# EAGLE library part AD767 (library ADS1115DGS)
ANALOG DEVICES
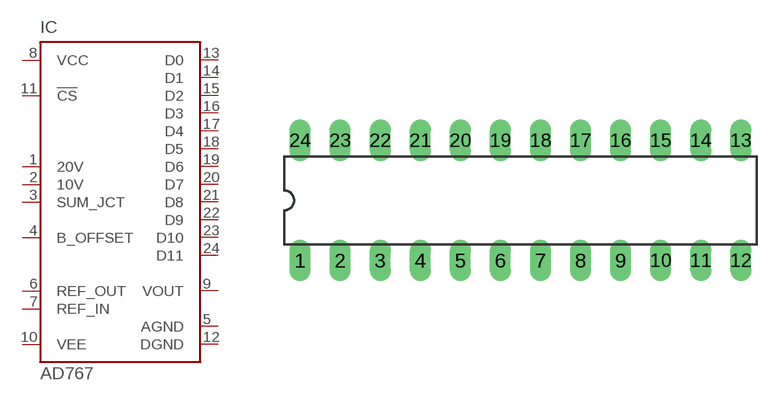
[diagram p6: symbol with the pads of DIL24-3; footprint DIL24-3]

Designator prefix IC

## AD767 (MF: ALTERA CORPORATION; MPN: AD767KNZ; OC_FARNELL: 9604510; OC_NEWARK: 59K5176)  [DIL24-3]
1  20V  pas
2  10V  pas
3  SUM_JCT  pas
4  B_OFFSET  pas
5  AGND  pwr
6  REF_OUT  out
7  REF_IN  in
8  VCC  pwr
9  VOUT  out
10  VEE  pwr
11  !CS  in
12  DGND  pwr
13  D0  hiz
14  D1  hiz
15  D2  hiz
16  D3  hiz
17  D4  hiz
18  D5  hiz
19  D6  hiz
20  D7  hiz
21  D8  hiz
22  D9  hiz
23  D10  hiz
24  D11  hiz

## Footprint DIL24-3 (pad centres in mm)
Dual In Line Package 0.3 inch
drill 0.813 long: 1 -13.97,-3.81; 2 -11.43,-3.81; 3 -8.89,-3.81; 4 -6.35,-3.81; 5 -3.81,-3.81; 6 -1.27,-3.81; 7 1.27,-3.81; 8 3.81,-3.81; 9 6.35,-3.81; 10 8.89,-3.81; 11 11.43,-3.81; 12 13.97,-3.81; 13 13.97,3.81; 14 11.43,3.81; 15 8.89,3.81; 16 6.35,3.81; 17 3.81,3.81; 18 1.27,3.81; 19 -1.27,3.81; 20 -3.81,3.81; 21 -6.35,3.81; 22 -8.89,3.81; 23 -11.43,3.81; 24 -13.97,3.81